# EAGLE library part 68HC908KX8 (library motorola-hc08)
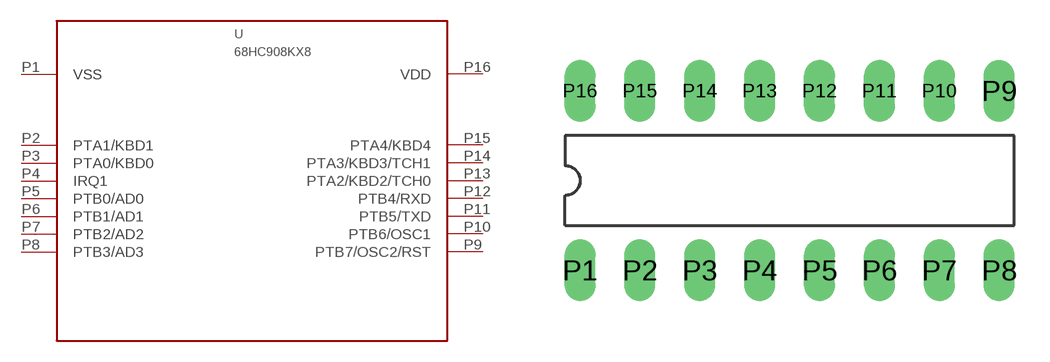
[diagram p1: symbol with the pads of DIL16; footprint DIL16]

Designator prefix -

## 68HC908KX8  [DIL16]
P1  VSS  pas
P2  PTA1/KBD1  pas
P3  PTA0/KBD0  pas
P4  IRQ1  pas
P5  PTB0/AD0  pas
P6  PTB1/AD1  pas
P7  PTB2/AD2  pas
P8  PTB3/AD3  pas
P9  PTB7/OSC2/RST  pas
P10  PTB6/OSC1  pas
P11  PTB5/TXD  pas
P12  PTB4/RXD  pas
P13  PTA2/KBD2/TCH0  pas
P14  PTA3/KBD3/TCH1  pas
P15  PTA4/KBD4  pas
P16  VDD  pas

## Footprint DIL16 (pad centres in mm)
drill 0.813 long: P1 -8.89,-3.81; P2 -6.35,-3.81; P3 -3.81,-3.81; P4 -1.27,-3.81; P5 1.27,-3.81; P6 3.81,-3.81; P7 6.35,-3.81; P8 8.89,-3.81; P9 8.89,3.81; P10 6.35,3.81; P11 3.81,3.81; P12 1.27,3.81; P13 -1.27,3.81; P14 -3.81,3.81; P15 -6.35,3.81; P16 -8.89,3.81